# Altium schematic symbol library SCH - POWER - LINEAR VREG - TI LP3988IMF-2.5.SchLib: 1 symbol
Pins are listed as number, name and electrical type; pins without a type are passive.

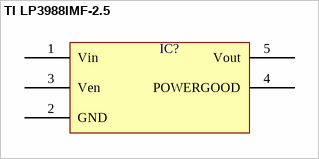
[diagram p0: symbol TI LP3988IMF-2.5]

## TI LP3988IMF-2.5
designator IC?  (value not drawn)
pins: 1 Vin, 2 GND, 3 Ven, 4 POWERGOOD, 5 Vout